# Altium schematic symbol library IC_OKY-T5-W5N-C.SchLib: 1 symbol
Pins are listed as number, name and electrical type; pins without a type are passive.

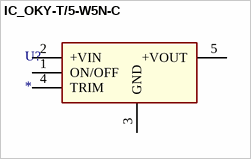
[diagram p0: symbol IC_OKY-T/5-W5N-C]

## IC_OKY-T/5-W5N-C
designator U?
pins: 1 ON/OFF, 2 +VIN, 3 GND, 4 TRIM, 5 +VOUT